# EAGLE library part HIROSE_DF13-6P-1.25DSA_50 (library DSDEagleLibrary)
1.25mm Pitch Miniature Crimping Connector
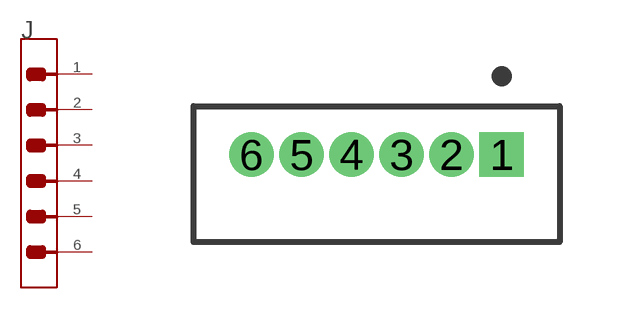
[diagram p64: symbol with the pads of HIROSE_DF13-6P-1.25DSA_50_0; footprint HIROSE_DF13-6P-1.25DSA_50_0]

Designator prefix J

## HIROSE_DF13-6P-1.25DSA_50HIROSE_DF13-6P-1.25DSA_50_0_0 (CENTROID_NOT_SPECIFIED: No; CONTACT_PITCH: 1.25 mm; DATASHEET: https://www.hirose.com/product/en/download_file/key_name/DF13-6P-1.25DSA%2850%29/category/Drawing%20(2D)/doc_file_id/38131/?file_category_id=6&item_id=05360105050&is_series=; DIGIKEY_DESCRIPTION: CONN HEADER 6POS 1.25MM GOLD; DIGIKEY_PART_NUMBER: H3309-ND; LEAD_FREE: yes; MANUFACTURER_PRODUCT_PAGE: https://www.hirose.com/product/en/products/DF13/DF13-6P-1.25DSA%2850%29/; MATING/UNMATING_CYCLES: 50; MF: HIROSE; MOUNTING_PITCH: 1.25 mm; MOUSER_PART_NUMBER: 798-DF136P125DSA50; MPN: DF13-6P-1.25DSA(50); PACKAGE: HDR6; PREFIX: J; PRODUCT_CATALOG: https://www.hirose.com/product/en/download_file/key_name/DF13-6P-1.25DSA%2850%29/category/Catalog/doc_file_id/31687/?file_category_id=5&item_id=05360105050&is_series=; RATED_CURRENT: 1A; RATED_VOLTAGE_(AC): AC 150 V; ROHS: yes; TEMPERATURE_RANGE_HIGH: +85°C; TEMPERATURE_RANGE_LOW: -35°C; WITHSTANDING_VOLTAGE: 500 V Max.)  [HIROSE_DF13-6P-1.25DSA_50_0]
1  1
2  2
3  3
4  4
5  5
6  6

## Footprint HIROSE_DF13-6P-1.25DSA_50_0 (pad centres in mm)
1.25mm Pitch Miniature Crimping Connector
drill 0.6 pad 1.1 square: 1 3.125,0.49
drill 0.6 pad 1.1: 2 1.875,0.49; 3 0.625,0.49; 4 -0.625,0.49; 5 -1.875,0.49; 6 -3.125,0.49